# Altium schematic symbol library LD1084V.Schlib: 1 symbol
Pins are listed as number, name and electrical type; pins without a type are passive.

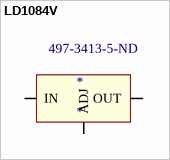
[diagram p0: symbol LD1084V]

## LD1084V
designator *  Supplier Part Number 1: 497-3413-5-ND
STMICROELECTRONICS         LD1084V            LDO Voltage Regulator, Adjustable, 30V in, 1.3V drop, 5A out, TO-220-3; Supplier 1: Digi-Key; Manufacturer: STMicroelectronics; Manufacturer Part Number: LD1084V; RoHS: Yes; Category: Voltage Regulators - Linear; Mount: Through Hole; Number of Pins: 3; Max Operating Temperature: 125°C; Length: 10.4mm; Height: 9.15mm; Width: 4.6mm; REACH SVHC: No SVHC; ComponentLink1URL: https://datasheet.ciiva.com/15111/getdatasheetpartid-64852-15111283.pdf?src-supplier=Verical; ComponentLink1Description: https://datasheet.ciiva.com/15111/getdatasheetpartid-64852-15111283.pdf?src-supplier=Verical; ComponentLink2URL: https://datasheet.ciiva.com/27052/1390160-27052164.pdf?src-supplier=Jameco; ComponentLink2Description: https://datasheet.ciiva.com/27052/1390160-27052164.pdf?src-supplier=Jameco; ComponentLink3URL: https://datasheet.ciiva.com/1511/1786011-1511541.pdf?src-supplier=Element14; ComponentLink3Description: https://datasheet.ciiva.com/1511/1786011-1511541.pdf?src-supplier=Element14; ComponentLink4URL: https://datasheet.ciiva.com/16496/cd00003086-16496021.pdf?src-supplier=Future+Electronics; ComponentLink4Description: https://datasheet.ciiva.com/16496/cd00003086-16496021.pdf?src-supplier=Future+Electronics; ComponentLink5URL: https://datasheet.ciiva.com/2045/cd00003086-2045335.pdf?src-supplier=Digi-Key; ComponentLink5Description: https://datasheet.ciiva.com/2045/cd00003086-2045335.pdf?src-supplier=Digi-Key
footprint TO-220-3
pins: 1 IN, 2 ADJ, 3 OUT